# Altium schematic symbol library DA14531-00000OG2.Schlib: 1 symbol
Pins are listed as number, name and electrical type; pins without a type are passive.

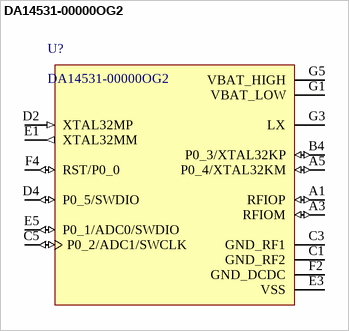
[diagram p0: symbol DA14531-00000OG2]

## DA14531-00000OG2
designator U?
IC RF TxRx + MCU Bluetooth Bluetooth v5.1 2.4GHz 17-XFBGA, WLCSP
pins: A1 RFIOP (io), A3 RFIOM (io), A5 P0_4/XTAL32KM (io), B4 P0_3/XTAL32KP (io), C1 GND_RF2 (power), C3 GND_RF1 (power), C5 P0_2/ADC1/SWCLK (io), D2 XTAL32MP (in), D4 P0_5/SWDIO (io), E1 XTAL32MM (out), E3 VSS (power), E5 P0_1/ADC0/SWDIO (io), F2 GND_DCDC (power), F4 RST/P0_0 (io), G1 VBAT_LOW (power), G3 LX, G5 VBAT_HIGH (power)